# Altium footprint library A1101EUA-T.PcbLib: 1 footprints
Each footprint in its own frame and in the unit in brackets; x right, y up, seen from the top. Pads: shape width x height; smd on the part's side, far side on the other; paste and mask are expansions set on the pad; w line width, h text height; cw(c..) or ccw(c..) is an arc to the next point about the centre after c.
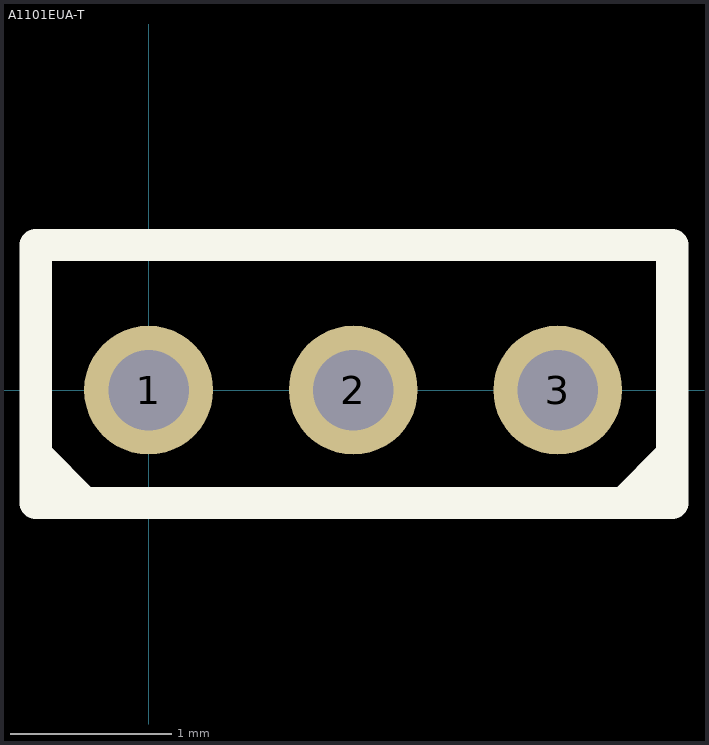
[diagram p0: the footprint, top view; thin cyan lines are the x and y axes]

## A1101EUA-T [mm] "ALLEGRO MICROSYSTEMS - A1101EUA-T - HALL EFFECT SWITCH, SIP-3, 1101"
height 3.1
pads (3):
  round 0.8 hole 0.5: 1(0,0) 2(1.27,0) 3(2.54,0)
Top Overlay:
  lines w0.2: -0.7,-0.4 -0.4,-0.7 -0.375,-0.7 ; 2.95,-0.7 3.25,-0.4 ; -0.7,-0.7 -0.7,0.9 3.25,0.9 3.25,-0.7 -0.7,-0.7
3D body: height 3.1, standoff 0.1, extent -0.7,-0.725 3.25,0.9